# EAGLE library part 128X32 (library ds_displays)
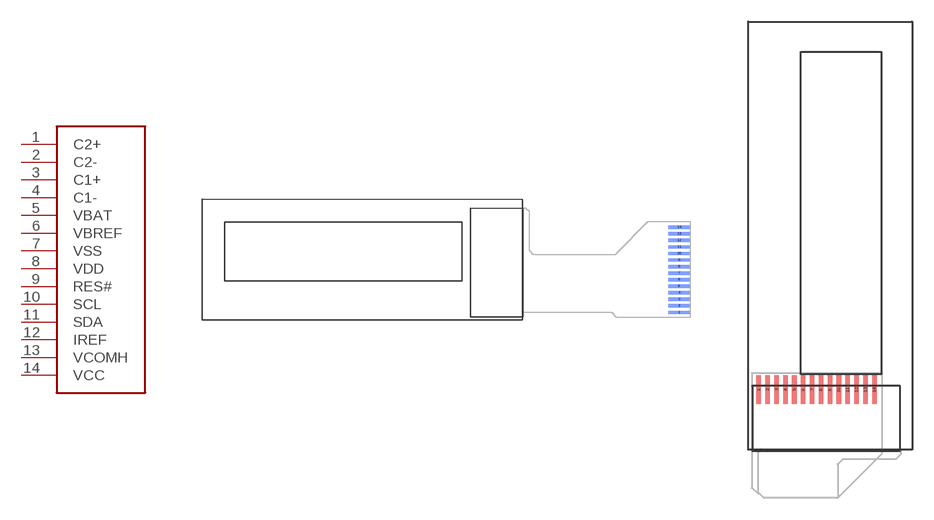
[diagram p8: symbol with the pads of 128X32; footprints 128X32, 128X32FOLDED]

Designator prefix -

## 128X32  [128X32]
1  C2+
2  C2-
3  C1+
4  C1-
5  VBAT
6  VBREF
7  VSS
8  VDD
9  RES#
10  SCL
11  SDA
12  IREF
13  VCOMH
14  VCC

## 128X32FOLDED  [128X32FOLDED]
Pads as for 128X32

## Footprint 128X32 (pad centres in mm)
smd 2 x 0.32 bottom: 1 30.734,-5.245; 2 30.734,-4.625; 3 30.734,-4.005; 4 30.734,-3.385; 5 30.734,-2.765; 6 30.734,-2.145; 7 30.734,-1.525; 8 30.734,-0.905; 9 30.734,-0.285; 10 30.734,0.335; 11 30.734,0.955; 12 30.734,1.575; 13 30.734,2.195; 14 30.734,2.815

## Footprint 128X32FOLDED (pad centres in mm)
smd 0.32 x 2: 1 -5.95,-12.65; 2 -5.33,-12.65; 3 -4.71,-12.65; 4 -4.09,-12.65; 5 -3.47,-12.65; 6 -2.85,-12.65; 7 -2.23,-12.65; 8 -1.61,-12.65; 9 -0.99,-12.65; 10 -0.37,-12.65; 11 0.25,-12.65; 12 0.87,-12.65; 13 1.49,-12.65; 14 2.11,-12.65